# Altium footprint library SuperCap.PcbLib: 1 footprints
Each footprint in its own frame and in the unit in brackets; x right, y up, seen from the top. Pads: shape width x height; smd on the part's side, far side on the other; paste and mask are expansions set on the pad; w line width, h text height; cw(c..) or ccw(c..) is an arc to the next point about the centre after c.
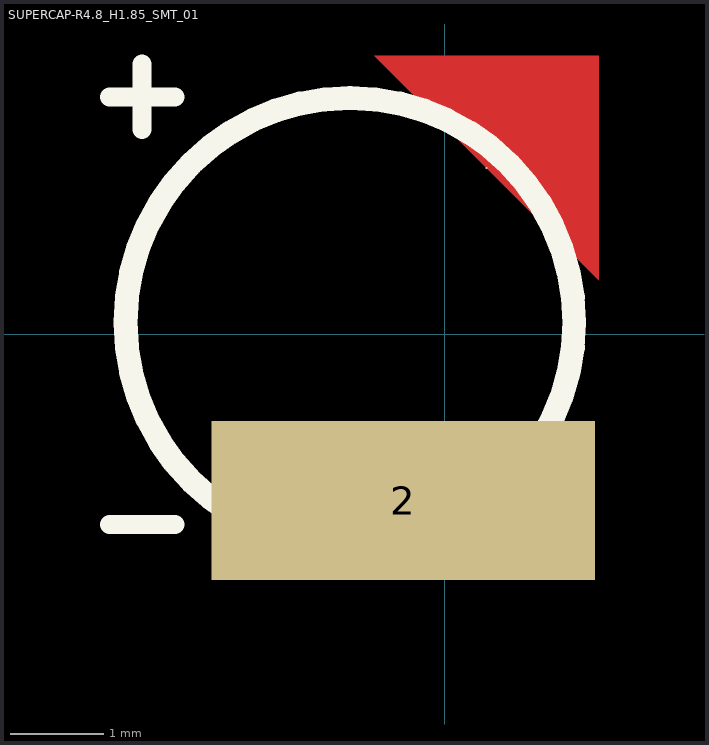
[diagram p0: the footprint, top view; thin cyan lines are the x and y axes]

## SUPERCAP-R4.8_H1.85_SMT_01 [mil]
pads (2):
  round 1 smd: 1(17.5,70)
  rect 161.42x66.93 smd: 2(-17.5,-70)
Top Layer:
  region: 22.5,65 -29.74,117.24 64.74,117.24 64.74,22.76
Top Overlay:
  circle w10: c-40,5 r94.49
  lines w8: -141.28,-80 -127.5,-80 -113.72,-80 ; -141.28,100 -127.5,100 ; -127.5,86.22 -127.5,100 ; -127.5,113.78 -127.5,100 ; -113.72,100 -127.5,100
3D body "User Library-XH414H-IV01E.STEP": height 65.35, standoff 1.38, extent -134.49,-89.49 54.53,99.49